# Altium footprint library Displays.PcbLib: 6 footprints
Each footprint in its own frame and in the unit in brackets; x right, y up, seen from the top. Pads: shape width x height; smd on the part's side, far side on the other; paste and mask are expansions set on the pad; w line width, h text height; cw(c..) or ccw(c..) is an arc to the next point about the centre after c.
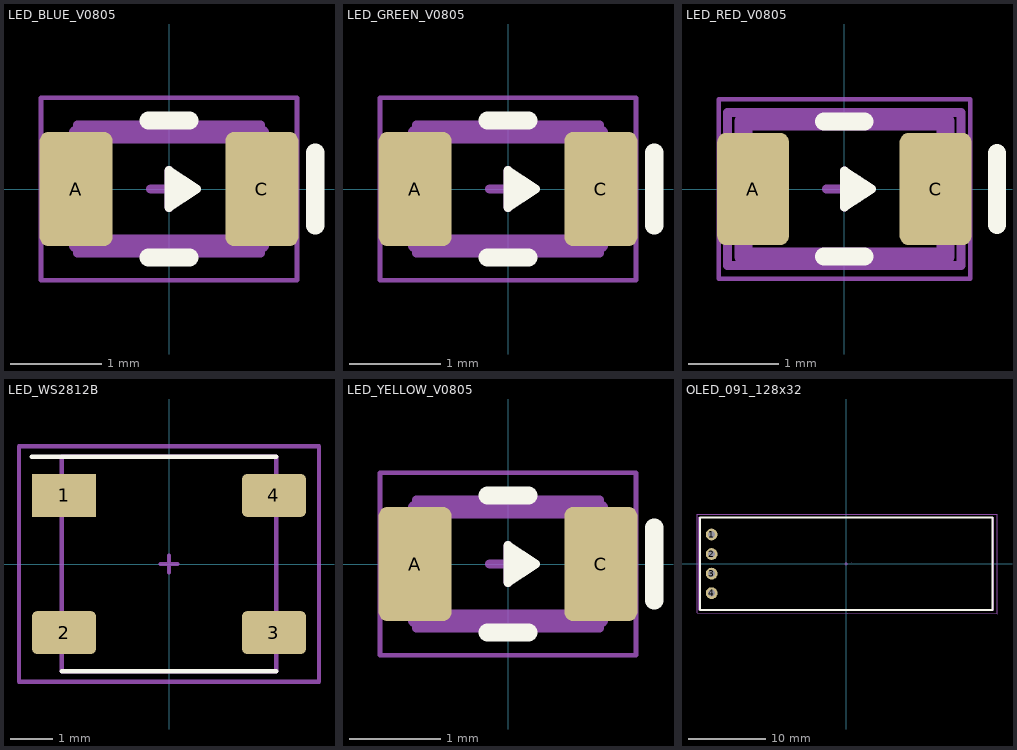
[diagram p0: the footprints below, top view; thin cyan lines are the x and y axes]

## LED_BLUE_V0805 [mm]
pads (2):
  rrect25% 0.8x1.25 smd paste+0 mask+0: A(-1.016,0) C(1.016,0)
Top Overlay:
  lines w0.1: 0.15,0.1 0.15,-0.1 0,0 ; 0,0 0,0.2 0.3,0 0,-0.2 0,0
  lines w0.2: -0.225,-0.75 0.225,-0.75 ; -0.225,0.75 0.225,0.75 ; 0.054,-0.092 0.086,0.066 0.15,0 ; 1.6,-0.4 1.6,0.4
Top Component Center:
  lines w0.1: -0.2,0 0,0 ; 0,-0.2 0,0 ; 0,0.2 0,0 ; 0.2,0 0,0
Top Assembly:
  lines w0.1: -1,-0.7 1,-0.7 1,0.7 -1,0.7 -1,-0.7
Top Designator:
  text ".Designator" at -7.48,-0.508 h1.52
Top 3D Body:
  lines w0.2: -1,-0.6 -1,0.6 1,0.6 1,-0.6 -1,-0.6
Top Courtyard:
  lines w0.05: -1.4,-1 -1.4,1 1.4,1 1.4,-1 -1.4,-1
3D body "LED-0805-Blue.step": height 0.8, standoff -0.01, extent -1.01,-0.625 1.01,0.625

## LED_GREEN_V0805 [mm]
pads (2):
  rrect25% 0.8x1.25 smd paste+0 mask+0: A(-1.016,0) C(1.016,0)
Top Overlay:
  lines w0.1: 0.15,0.1 0.15,-0.1 0,0 ; 0,0 0,0.2 0.3,0 0,-0.2 0,0
  lines w0.2: -0.225,-0.75 0.225,-0.75 ; -0.225,0.75 0.225,0.75 ; 0.054,-0.092 0.086,0.066 0.15,0 ; 1.6,-0.4 1.6,0.4
Top Component Center:
  lines w0.1: -0.2,0 0,0 ; 0,-0.2 0,0 ; 0,0.2 0,0 ; 0.2,0 0,0
Top Assembly:
  lines w0.1: -1,-0.7 1,-0.7 1,0.7 -1,0.7 -1,-0.7
Top Designator:
  text ".Designator" at -7.48,-0.508 h1.52
Top 3D Body:
  lines w0.2: -1,-0.6 -1,0.6 1,0.6 1,-0.6 -1,-0.6
Top Courtyard:
  lines w0.05: -1.4,-1 -1.4,1 1.4,1 1.4,-1 -1.4,-1
3D body "LED-0805-Green.step": height 0.8, standoff -0.01, extent -1.01,-0.625 1.01,0.625

## LED_RED_V0805 [mm]
pads (2):
  rrect25% 0.8x1.25 smd paste+0 mask+0: A(-1.016,0) C(1.016,0)
Top Overlay:
  lines w0.1: 0.15,0.1 0.15,-0.1 0,0 ; 0,0 0,-0.2 0.3,0 0,0.2 0,0
  lines w0.2: -0.225,-0.75 0.225,-0.75 ; -0.225,0.75 0.225,0.75 ; 0.054,-0.092 0.086,0.066 0.15,0 ; 1.7,-0.4 1.7,0.4
Top Component Center:
  lines w0.1: -0.2,0 0,0 ; 0,-0.2 0,0 ; 0,0.2 0,0 ; 0.2,0 0,0
Top Assembly:
  lines w0.1: -1.3,-0.85 -1.3,0.85 1.3,0.85 1.3,-0.85 -1.3,-0.85
Top Designator:
  text ".Designator" at -7.43,-0.508 h1.52
Top 3D Body:
  lines w0.2: -1.125,-0.75 1.125,-0.75 1.125,0.75 -1.125,0.75 -1.125,-0.75
Top Courtyard:
  lines w0.05: -1.4,-1 1.4,-1 1.4,1 -1.4,1 -1.4,-1
3D body "Diode_Lumex_SML-LX0805SRC-TR_eec.STEP": height 0.25, standoff 0, extent -1.3,-0.85 1.3,0.85

## LED_WS2812B [mm]
pads (4):
  rect 1.5x1 smd: 1(-2.45,1.6)
  rrect25% 1.5x1 smd: 2(-2.45,-1.6) 3(2.45,-1.6) 4(2.45,1.6)
Top Overlay:
  lines w0.1: -3.2,2.5 2.5,2.5 ; -2.5,-2.5 2.5,-2.5
Top Component Center:
  lines w0.1: -0.2,0 0,0 ; 0,-0.2 0,0 ; 0,0.2 0,0 ; 0.2,0 0,0
Top Designator:
  text ".Designator" at -5,-0.267 h1
Top 3D Body:
  lines w0.1: -2.5,-2.5 -2.5,2.5 2.5,2.5 2.5,-2.5 -2.5,-2.5
Top Courtyard:
  lines w0.1: -3.5,-2.75 -3.5,2.75 -0.5,2.75 3.5,2.75 3.5,-2.75 -3.5,-2.75
3D body "WS2812_RGB_LED_updated.stp": height 1.5, standoff -0.2, extent -2.675,-2.475 2.675,2.475

## LED_YELLOW_V0805 [mm]
pads (2):
  rrect25% 0.8x1.25 smd paste+0 mask+0: A(-1.016,0) C(1.016,0)
Top Overlay:
  lines w0.1: 0.15,0.1 0.15,-0.1 0,0 ; 0,0 0,-0.2 0.3,0 0,0.2 0,0
  lines w0.2: -0.225,-0.75 0.225,-0.75 ; -0.225,0.75 0.225,0.75 ; 0.054,-0.092 0.086,0.066 0.15,0 ; 1.6,-0.4 1.6,0.4
Top Component Center:
  lines w0.1: -0.2,0 0,0 ; 0,-0.2 0,0 ; 0,0.2 0,0 ; 0.2,0 0,0
Top Assembly:
  lines w0.1: -1,-0.7 -1,0.7 1,0.7 1,-0.7 -1,-0.7
Top Designator:
  text ".Designator" at -7.48,-0.508 h1.52
Top 3D Body:
  lines w0.2: -1,-0.6 1,-0.6 1,0.6 -1,0.6 -1,-0.6
Top Courtyard:
  lines w0.05: -1.4,-1 1.4,-1 1.4,1 -1.4,1 -1.4,-1
3D body "LED-0805-Yellow.step": height 0.8, standoff -0.01, extent -1.01,-0.625 1.01,0.625

## OLED_091_128x32 [mil]
pads (4):
  round 60 hole 36 paste-99999 mask+4: 1(-688.91,148.95) 2(-688.91,48.95) 3(-688.91,-51.05) 4(-688.91,-151.05)
Top Overlay:
  lines w10: -747.96,-237.27 748.1,-237.27 748.1,235.17 -747.96,235.17 -747.96,-237.27
Top Component Center:
  lines w3.94: -7.87,0 0,0 ; 0,-7.87 0,0 ; 0,7.87 0,0 ; 7.87,0 0,0
Top Assembly:
  lines w3.94: -755.91,-236.22 -755.91,236.22 755.91,236.22 755.91,-236.22 -755.91,-236.22
Top Designator:
  text ".Designator" at -330.83,230.92 h60
Top Courtyard:
  lines w0.1: 27.56,3.94 27.58,3.96
  lines w1.97: -763.78,-251.97 771.65,-255.91 771.65,251.97 -763.78,251.97 -763.78,-251.97
3D body "OLED_0.91_128x32.stp": height 201.18, standoff -250, extent -753.97,-238.21 753.91,238.17